# Altium schematic symbol library U_KSZ8794CNX.SchLib: 1 symbol
Pins are listed as number, name and electrical type; pins without a type are passive.

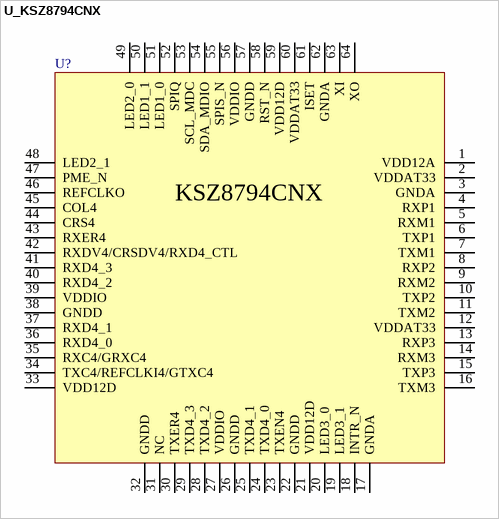
[diagram p0: symbol U_KSZ8794CNX]

## U_KSZ8794CNX
designator U?  (value not drawn)
pins: 1 VDD12A, 2 VDDAT33, 3 GNDA, 4 RXP1, 5 RXM1, 6 TXP1, 7 TXM1, 8 RXP2, 9 RXM2, 10 TXP2, 11 TXM2, 12 VDDAT33, 13 RXP3, 14 RXM3, 15 TXP3, 16 TXM3, 17 GNDA, 18 INTR_N, 19 LED3_1, 20 LED3_0, 21 VDD12D, 22 GNDD, 23 TXEN4, 24 TXD4_0, 25 TXD4_1, 26 GNDD, 27 VDDIO, 28 TXD4_2, 29 TXD4_3, 30 TXER4, 31 NC, 32 GNDD, 33 VDD12D, 34 TXC4/REFCLKI4/GTXC4, 35 RXC4/GRXC4, 36 RXD4_0, 37 RXD4_1, 38 GNDD, 39 VDDIO, 40 RXD4_2, 41 RXD4_3, 42 RXDV4/CRSDV4/RXD4_CTL, 43 RXER4, 44 CRS4, 45 COL4, 46 REFCLKO, 47 PME_N, 48 LED2_1, 49 LED2_0, 50 LED1_1, 51 LED1_0, 52 SPIQ, 53 SCL_MDC, 54 SDA_MDIO, 55 SPIS_N, 56 VDDIO, 57 GNDD, 58 RST_N, 59 VDD12D, 60 VDDAT33, 61 ISET, 62 GNDA, 63 XI, 64 XO
text: KSZ8794CNX